# Altium integrated library Panasonic_ERJ_1206.IntLib: 1141 symbols (part 4 of 22)
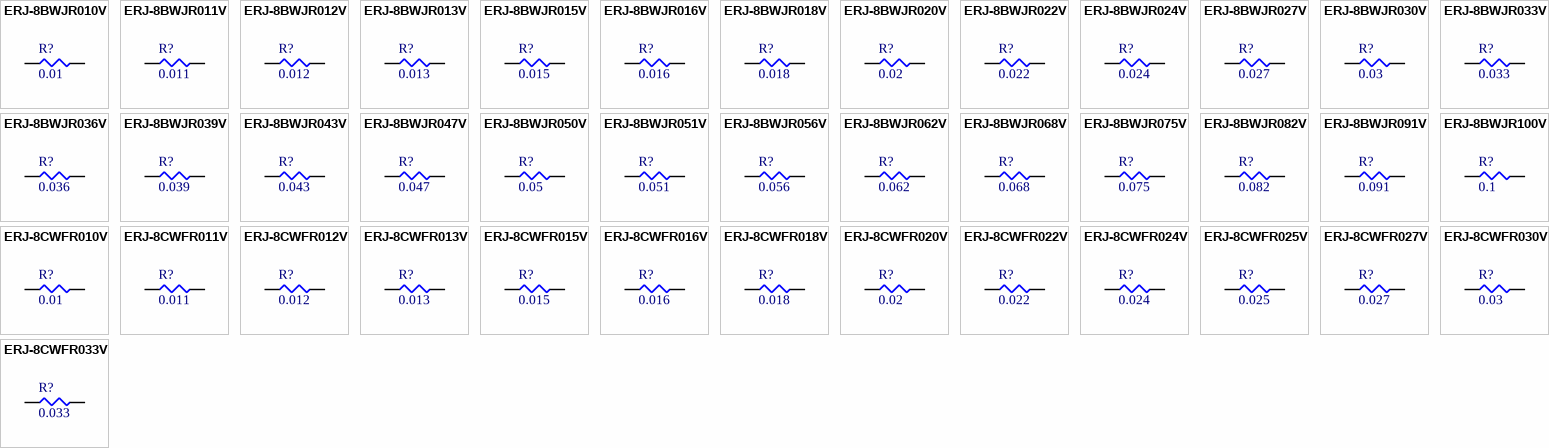
[diagram p31: symbols ERJ-8BWJR010V to ERJ-8CWFR033V]

## ERJ-8CWFR025V
designator R?, comment 0.025
RES SMD 0.025 OHM 1% 1W 1206; Part Number: ERJ-8CWFR025V; Manufacturer: Panasonic Electronic Components; Factory Stock: 0; Unit Price (USD): 0.12302; @ qty: 1500; Minimum Quantity: 1; Temperature Coefficient: ±75ppm/°C; Datasheets: https://industrial.panasonic.com/cdbs/www-data/pdf/RDA0000/AOA0000C239.pdf; Image: //media.digikey.com/Renders/Panasonic%20Renders/ERJ-1206%20Pkg.jpg; Digi-Key Part Number: P0.025BVCT-ND; Quantity Available: 31553; Packaging: Cut Tape (CT); Series: ERJ; Part Status: Active; Value: 0.025; Tolerance: ±1%; Power (Watts): 1W; Composition: Thick Film; Features: Automotive AEC-Q200, Current Sense; Operating Temperature: -55°C ~ 155°C; Package / Case: 1206 (3216 Metric); Supplier Device Package: 1206; Size / Dimension: 0.126" L x 0.063" W (3.20mm x 1.60mm); Height - Seated (Max): 0.030" (0.75mm); Number of Terminations: 2; Failure Rate: -
footprint SMD-1206-RES
pins: 1, 2

## ERJ-8CWFR027V
designator R?, comment 0.027
RES SMD 0.027 OHM 1% 1W 1206; Part Number: ERJ-8CWFR027V; Manufacturer: Panasonic Electronic Components; Factory Stock: 0; Unit Price (USD): 0.12302; @ qty: 1500; Minimum Quantity: 1; Temperature Coefficient: ±75ppm/°C; Datasheets: https://industrial.panasonic.com/cdbs/www-data/pdf/RDA0000/AOA0000C239.pdf; Image: //media.digikey.com/Renders/Panasonic%20Renders/ERJ-1206%20Pkg.jpg; Digi-Key Part Number: P0.027BVCT-ND; Quantity Available: 7790; Packaging: Cut Tape (CT); Series: ERJ; Part Status: Active; Value: 0.027; Tolerance: ±1%; Power (Watts): 1W; Composition: Thick Film; Features: Automotive AEC-Q200, Current Sense; Operating Temperature: -55°C ~ 155°C; Package / Case: 1206 (3216 Metric); Supplier Device Package: 1206; Size / Dimension: 0.126" L x 0.063" W (3.20mm x 1.60mm); Height - Seated (Max): 0.030" (0.75mm); Number of Terminations: 2; Failure Rate: -
footprint SMD-1206-RES
pins: 1, 2

## ERJ-8CWFR030V
designator R?, comment 0.03
RES SMD 0.03 OHM 1% 1W 1206; Part Number: ERJ-8CWFR030V; Manufacturer: Panasonic Electronic Components; Factory Stock: 0; Unit Price (USD): 0.12302; @ qty: 1500; Minimum Quantity: 1; Temperature Coefficient: ±75ppm/°C; Datasheets: https://industrial.panasonic.com/cdbs/www-data/pdf/RDA0000/AOA0000C239.pdf; Image: //media.digikey.com/Renders/Panasonic%20Renders/ERJ-1206%20Pkg.jpg; Digi-Key Part Number: P0.03BVCT-ND; Quantity Available: 14446; Packaging: Cut Tape (CT); Series: ERJ; Part Status: Active; Value: 0.03; Tolerance: ±1%; Power (Watts): 1W; Composition: Thick Film; Features: Automotive AEC-Q200, Current Sense; Operating Temperature: -55°C ~ 155°C; Package / Case: 1206 (3216 Metric); Supplier Device Package: 1206; Size / Dimension: 0.126" L x 0.063" W (3.20mm x 1.60mm); Height - Seated (Max): 0.030" (0.75mm); Number of Terminations: 2; Failure Rate: -
footprint SMD-1206-RES
pins: 1, 2

## ERJ-8CWFR033V
designator R?, comment 0.033
RES SMD 0.033 OHM 1% 1W 1206; Part Number: ERJ-8CWFR033V; Manufacturer: Panasonic Electronic Components; Factory Stock: 0; Unit Price (USD): 0.12302; @ qty: 1500; Minimum Quantity: 1; Temperature Coefficient: ±75ppm/°C; Datasheets: https://industrial.panasonic.com/cdbs/www-data/pdf/RDA0000/AOA0000C239.pdf; Image: //media.digikey.com/Renders/Panasonic%20Renders/ERJ-1206%20Pkg.jpg; Digi-Key Part Number: P0.033BVCT-ND; Quantity Available: 9167; Packaging: Cut Tape (CT); Series: ERJ; Part Status: Active; Value: 0.033; Tolerance: ±1%; Power (Watts): 1W; Composition: Thick Film; Features: Automotive AEC-Q200, Current Sense; Operating Temperature: -55°C ~ 155°C; Package / Case: 1206 (3216 Metric); Supplier Device Package: 1206; Size / Dimension: 0.126" L x 0.063" W (3.20mm x 1.60mm); Height - Seated (Max): 0.030" (0.75mm); Number of Terminations: 2; Failure Rate: -
footprint SMD-1206-RES
pins: 1, 2

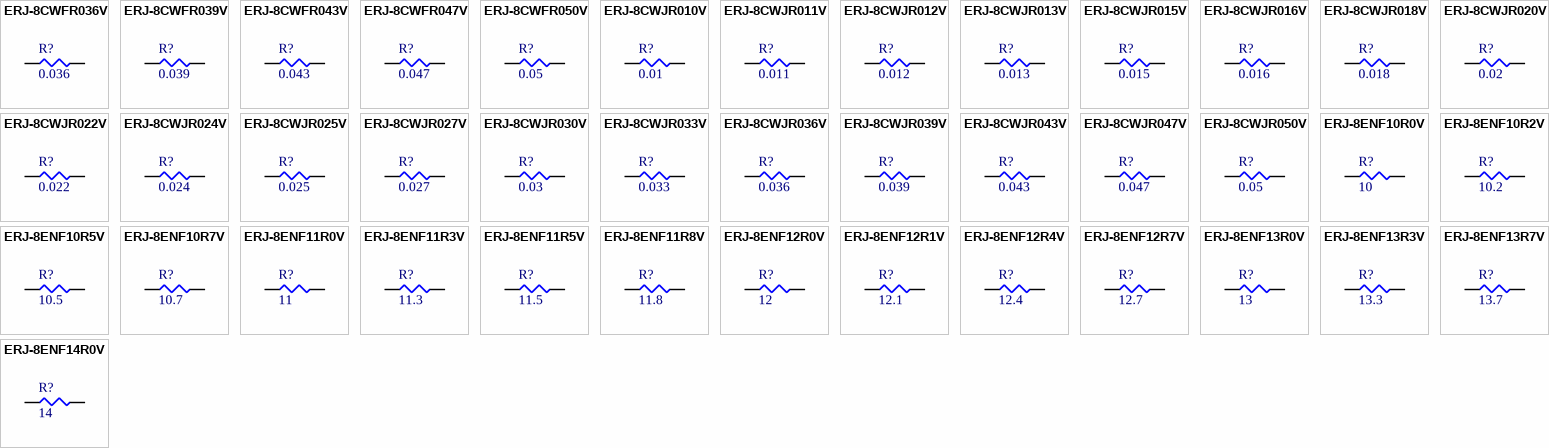
[diagram p4: symbols ERJ-8CWFR036V to ERJ-8ENF14R0V]

## ERJ-8CWFR036V
designator R?, comment 0.036
RES SMD 0.036 OHM 1% 1W 1206; Part Number: ERJ-8CWFR036V; Manufacturer: Panasonic Electronic Components; Factory Stock: 0; Unit Price (USD): 0.12302; @ qty: 1500; Minimum Quantity: 1; Temperature Coefficient: ±75ppm/°C; Datasheets: https://industrial.panasonic.com/cdbs/www-data/pdf/RDA0000/AOA0000C239.pdf; Image: //media.digikey.com/Renders/Panasonic%20Renders/ERJ-1206%20Pkg.jpg; Digi-Key Part Number: P0.036BVCT-ND; Quantity Available: 18695; Packaging: Cut Tape (CT); Series: ERJ; Part Status: Active; Value: 0.036; Tolerance: ±1%; Power (Watts): 1W; Composition: Thick Film; Features: Automotive AEC-Q200, Current Sense; Operating Temperature: -55°C ~ 125°C; Package / Case: 1206 (3216 Metric); Supplier Device Package: 1206; Size / Dimension: 0.126" L x 0.063" W (3.20mm x 1.60mm); Height - Seated (Max): 0.030" (0.75mm); Number of Terminations: 2; Failure Rate: -
footprint SMD-1206-RES
pins: 1, 2

## ERJ-8CWFR039V
designator R?, comment 0.039
RES SMD 0.039 OHM 1% 1W 1206; Part Number: ERJ-8CWFR039V; Manufacturer: Panasonic Electronic Components; Factory Stock: 0; Unit Price (USD): 0.12302; @ qty: 1500; Minimum Quantity: 1; Temperature Coefficient: ±75ppm/°C; Datasheets: https://industrial.panasonic.com/cdbs/www-data/pdf/RDA0000/AOA0000C239.pdf; Image: //media.digikey.com/Renders/Panasonic%20Renders/ERJ-1206%20Pkg.jpg; Digi-Key Part Number: P0.039BVCT-ND; Quantity Available: 10337; Packaging: Cut Tape (CT); Series: ERJ; Part Status: Active; Value: 0.039; Tolerance: ±1%; Power (Watts): 1W; Composition: Thick Film; Features: Automotive AEC-Q200, Current Sense; Operating Temperature: -55°C ~ 125°C; Package / Case: 1206 (3216 Metric); Supplier Device Package: 1206; Size / Dimension: 0.126" L x 0.063" W (3.20mm x 1.60mm); Height - Seated (Max): 0.030" (0.75mm); Number of Terminations: 2; Failure Rate: -
footprint SMD-1206-RES
pins: 1, 2

## ERJ-8CWFR043V
designator R?, comment 0.043
RES SMD 0.043 OHM 1% 1W 1206; Part Number: ERJ-8CWFR043V; Manufacturer: Panasonic Electronic Components; Factory Stock: 0; Unit Price (USD): 0.12302; @ qty: 1500; Minimum Quantity: 1; Temperature Coefficient: ±75ppm/°C; Datasheets: https://industrial.panasonic.com/cdbs/www-data/pdf/RDA0000/AOA0000C239.pdf; Image: //media.digikey.com/Renders/Panasonic%20Renders/ERJ-1206%20Pkg.jpg; Digi-Key Part Number: P0.043BVCT-ND; Quantity Available: 1988; Packaging: Cut Tape (CT); Series: ERJ; Part Status: Active; Value: 0.043; Tolerance: ±1%; Power (Watts): 1W; Composition: Thick Film; Features: Automotive AEC-Q200, Current Sense; Operating Temperature: -55°C ~ 125°C; Package / Case: 1206 (3216 Metric); Supplier Device Package: 1206; Size / Dimension: 0.126" L x 0.063" W (3.20mm x 1.60mm); Height - Seated (Max): 0.030" (0.75mm); Number of Terminations: 2; Failure Rate: -
footprint SMD-1206-RES
pins: 1, 2

## ERJ-8CWFR047V
designator R?, comment 0.047
RES SMD 0.047 OHM 1% 1W 1206; Part Number: ERJ-8CWFR047V; Manufacturer: Panasonic Electronic Components; Factory Stock: 0; Unit Price (USD): 0.12302; @ qty: 1500; Minimum Quantity: 1; Temperature Coefficient: ±75ppm/°C; Datasheets: https://industrial.panasonic.com/cdbs/www-data/pdf/RDA0000/AOA0000C239.pdf; Image: //media.digikey.com/Renders/Panasonic%20Renders/ERJ-1206%20Pkg.jpg; Digi-Key Part Number: P0.047BVCT-ND; Quantity Available: 5071; Packaging: Cut Tape (CT); Series: ERJ; Part Status: Active; Value: 0.047; Tolerance: ±1%; Power (Watts): 1W; Composition: Thick Film; Features: Automotive AEC-Q200, Current Sense; Operating Temperature: -55°C ~ 125°C; Package / Case: 1206 (3216 Metric); Supplier Device Package: 1206; Size / Dimension: 0.126" L x 0.063" W (3.20mm x 1.60mm); Height - Seated (Max): 0.030" (0.75mm); Number of Terminations: 2; Failure Rate: -
footprint SMD-1206-RES
pins: 1, 2

## ERJ-8CWFR050V
designator R?, comment 0.05
RES SMD 0.05 OHM 1% 1W 1206; Part Number: ERJ-8CWFR050V; Manufacturer: Panasonic Electronic Components; Factory Stock: 0; Unit Price (USD): 0.12302; @ qty: 1500; Minimum Quantity: 1; Temperature Coefficient: ±75ppm/°C; Datasheets: https://industrial.panasonic.com/cdbs/www-data/pdf/RDA0000/AOA0000C239.pdf; Image: //media.digikey.com/Renders/Panasonic%20Renders/ERJ-1206%20Pkg.jpg; Digi-Key Part Number: P0.05BVCT-ND; Quantity Available: 72567; Packaging: Cut Tape (CT); Series: ERJ; Part Status: Active; Value: 0.05; Tolerance: ±1%; Power (Watts): 1W; Composition: Thick Film; Features: Automotive AEC-Q200, Current Sense; Operating Temperature: -55°C ~ 125°C; Package / Case: 1206 (3216 Metric); Supplier Device Package: 1206; Size / Dimension: 0.126" L x 0.063" W (3.20mm x 1.60mm); Height - Seated (Max): 0.030" (0.75mm); Number of Terminations: 2; Failure Rate: -
footprint SMD-1206-RES
pins: 1, 2

## ERJ-8CWJR010V
designator R?, comment 0.01
RES SMD 0.01 OHM 5% 1W 1206; Part Number: ERJ-8CWJR010V; Manufacturer: Panasonic Electronic Components; Factory Stock: 0; Unit Price (USD): 0.10472; @ qty: 1500; Minimum Quantity: 1; Temperature Coefficient: ±75ppm/°C; Datasheets: https://industrial.panasonic.com/cdbs/www-data/pdf/RDA0000/AOA0000C239.pdf; Image: //media.digikey.com/Renders/Panasonic%20Renders/ERJ-1206%20Pkg.jpg; Digi-Key Part Number: P0.01BWCT-ND; Quantity Available: 13964; Packaging: Cut Tape (CT); Series: ERJ; Part Status: Active; Value: 0.01; Tolerance: ±5%; Power (Watts): 1W; Composition: Thick Film; Features: Automotive AEC-Q200, Current Sense; Operating Temperature: -55°C ~ 155°C; Package / Case: 1206 (3216 Metric); Supplier Device Package: 1206; Size / Dimension: 0.126" L x 0.063" W (3.20mm x 1.60mm); Height - Seated (Max): 0.030" (0.75mm); Number of Terminations: 2; Failure Rate: -
footprint SMD-1206-RES
pins: 1, 2

## ERJ-8CWJR011V
designator R?, comment 0.011
RES SMD 0.011 OHM 5% 1W 1206; Part Number: ERJ-8CWJR011V; Manufacturer: Panasonic Electronic Components; Factory Stock: 0; Unit Price (USD): 0.10472; @ qty: 1500; Minimum Quantity: 1; Temperature Coefficient: ±75ppm/°C; Datasheets: https://industrial.panasonic.com/cdbs/www-data/pdf/RDA0000/AOA0000C239.pdf; Image: //media.digikey.com/Renders/Panasonic%20Renders/ERJ-1206%20Pkg.jpg; Digi-Key Part Number: P0.011BWCT-ND; Quantity Available: 12783; Packaging: Cut Tape (CT); Series: ERJ; Part Status: Active; Value: 0.011; Tolerance: ±5%; Power (Watts): 1W; Composition: Thick Film; Features: Automotive AEC-Q200, Current Sense; Operating Temperature: -55°C ~ 155°C; Package / Case: 1206 (3216 Metric); Supplier Device Package: 1206; Size / Dimension: 0.126" L x 0.063" W (3.20mm x 1.60mm); Height - Seated (Max): 0.030" (0.75mm); Number of Terminations: 2; Failure Rate: -
footprint SMD-1206-RES
pins: 1, 2

## ERJ-8CWJR012V
designator R?, comment 0.012
RES SMD 0.012 OHM 5% 1W 1206; Part Number: ERJ-8CWJR012V; Manufacturer: Panasonic Electronic Components; Factory Stock: 0; Unit Price (USD): 0.10472; @ qty: 1500; Minimum Quantity: 1; Temperature Coefficient: ±75ppm/°C; Datasheets: https://industrial.panasonic.com/cdbs/www-data/pdf/RDA0000/AOA0000C239.pdf; Image: //media.digikey.com/Renders/Panasonic%20Renders/ERJ-1206%20Pkg.jpg; Digi-Key Part Number: P0.012BWCT-ND; Quantity Available: 8468; Packaging: Cut Tape (CT); Series: ERJ; Part Status: Active; Value: 0.012; Tolerance: ±5%; Power (Watts): 1W; Composition: Thick Film; Features: Automotive AEC-Q200, Current Sense; Operating Temperature: -55°C ~ 155°C; Package / Case: 1206 (3216 Metric); Supplier Device Package: 1206; Size / Dimension: 0.126" L x 0.063" W (3.20mm x 1.60mm); Height - Seated (Max): 0.030" (0.75mm); Number of Terminations: 2; Failure Rate: -
footprint SMD-1206-RES
pins: 1, 2

## ERJ-8CWJR013V
designator R?, comment 0.013
RES SMD 0.013 OHM 5% 1W 1206; Part Number: ERJ-8CWJR013V; Manufacturer: Panasonic Electronic Components; Factory Stock: 0; Unit Price (USD): 0.10472; @ qty: 1500; Minimum Quantity: 1; Temperature Coefficient: ±75ppm/°C; Datasheets: https://industrial.panasonic.com/cdbs/www-data/pdf/RDA0000/AOA0000C239.pdf; Image: //media.digikey.com/Renders/Panasonic%20Renders/ERJ-1206%20Pkg.jpg; Digi-Key Part Number: P0.013BWCT-ND; Quantity Available: 9816; Packaging: Cut Tape (CT); Series: ERJ; Part Status: Active; Value: 0.013; Tolerance: ±5%; Power (Watts): 1W; Composition: Thick Film; Features: Automotive AEC-Q200, Current Sense; Operating Temperature: -55°C ~ 155°C; Package / Case: 1206 (3216 Metric); Supplier Device Package: 1206; Size / Dimension: 0.126" L x 0.063" W (3.20mm x 1.60mm); Height - Seated (Max): 0.030" (0.75mm); Number of Terminations: 2; Failure Rate: -
footprint SMD-1206-RES
pins: 1, 2

## ERJ-8CWJR015V
designator R?, comment 0.015
RES SMD 0.015 OHM 5% 1W 1206; Part Number: ERJ-8CWJR015V; Manufacturer: Panasonic Electronic Components; Factory Stock: 0; Unit Price (USD): 0.10472; @ qty: 1500; Minimum Quantity: 1; Temperature Coefficient: ±75ppm/°C; Datasheets: https://industrial.panasonic.com/cdbs/www-data/pdf/RDA0000/AOA0000C239.pdf; Image: //media.digikey.com/Renders/Panasonic%20Renders/ERJ-1206%20Pkg.jpg; Digi-Key Part Number: P0.015BWCT-ND; Quantity Available: 2869; Packaging: Cut Tape (CT); Series: ERJ; Part Status: Active; Value: 0.015; Tolerance: ±5%; Power (Watts): 1W; Composition: Thick Film; Features: Automotive AEC-Q200, Current Sense; Operating Temperature: -55°C ~ 155°C; Package / Case: 1206 (3216 Metric); Supplier Device Package: 1206; Size / Dimension: 0.126" L x 0.063" W (3.20mm x 1.60mm); Height - Seated (Max): 0.030" (0.75mm); Number of Terminations: 2; Failure Rate: -
footprint SMD-1206-RES
pins: 1, 2

## ERJ-8CWJR016V
designator R?, comment 0.016
RES SMD 0.016 OHM 5% 1W 1206; Part Number: ERJ-8CWJR016V; Manufacturer: Panasonic Electronic Components; Factory Stock: 0; Unit Price (USD): 0.10472; @ qty: 1500; Minimum Quantity: 1; Temperature Coefficient: ±75ppm/°C; Datasheets: https://industrial.panasonic.com/cdbs/www-data/pdf/RDA0000/AOA0000C239.pdf; Image: //media.digikey.com/Renders/Panasonic%20Renders/ERJ-1206%20Pkg.jpg; Digi-Key Part Number: P0.016BWCT-ND; Quantity Available: 9780; Packaging: Cut Tape (CT); Series: ERJ; Part Status: Active; Value: 0.016; Tolerance: ±5%; Power (Watts): 1W; Composition: Thick Film; Features: Automotive AEC-Q200, Current Sense; Operating Temperature: -55°C ~ 155°C; Package / Case: 1206 (3216 Metric); Supplier Device Package: 1206; Size / Dimension: 0.126" L x 0.063" W (3.20mm x 1.60mm); Height - Seated (Max): 0.030" (0.75mm); Number of Terminations: 2; Failure Rate: -
footprint SMD-1206-RES
pins: 1, 2

## ERJ-8CWJR018V
designator R?, comment 0.018
RES SMD 0.018 OHM 5% 1W 1206; Part Number: ERJ-8CWJR018V; Manufacturer: Panasonic Electronic Components; Factory Stock: 0; Unit Price (USD): 0.10472; @ qty: 1500; Minimum Quantity: 1; Temperature Coefficient: ±75ppm/°C; Datasheets: https://industrial.panasonic.com/cdbs/www-data/pdf/RDA0000/AOA0000C239.pdf; Image: //media.digikey.com/Renders/Panasonic%20Renders/ERJ-1206%20Pkg.jpg; Digi-Key Part Number: P0.018BWCT-ND; Quantity Available: 9276; Packaging: Cut Tape (CT); Series: ERJ; Part Status: Active; Value: 0.018; Tolerance: ±5%; Power (Watts): 1W; Composition: Thick Film; Features: Automotive AEC-Q200, Current Sense; Operating Temperature: -55°C ~ 155°C; Package / Case: 1206 (3216 Metric); Supplier Device Package: 1206; Size / Dimension: 0.126" L x 0.063" W (3.20mm x 1.60mm); Height - Seated (Max): 0.030" (0.75mm); Number of Terminations: 2; Failure Rate: -
footprint SMD-1206-RES
pins: 1, 2

## ERJ-8CWJR020V
designator R?, comment 0.02
RES SMD 0.02 OHM 5% 1W 1206; Part Number: ERJ-8CWJR020V; Manufacturer: Panasonic Electronic Components; Factory Stock: 0; Unit Price (USD): 0.10472; @ qty: 1500; Minimum Quantity: 1; Temperature Coefficient: ±75ppm/°C; Datasheets: https://industrial.panasonic.com/cdbs/www-data/pdf/RDA0000/AOA0000C239.pdf; Image: //media.digikey.com/Renders/Panasonic%20Renders/ERJ-1206%20Pkg.jpg; Digi-Key Part Number: P0.02BWCT-ND; Quantity Available: 5930; Packaging: Cut Tape (CT); Series: ERJ; Part Status: Active; Value: 0.02; Tolerance: ±5%; Power (Watts): 1W; Composition: Thick Film; Features: Automotive AEC-Q200, Current Sense; Operating Temperature: -55°C ~ 155°C; Package / Case: 1206 (3216 Metric); Supplier Device Package: 1206; Size / Dimension: 0.126" L x 0.063" W (3.20mm x 1.60mm); Height - Seated (Max): 0.030" (0.75mm); Number of Terminations: 2; Failure Rate: -
footprint SMD-1206-RES
pins: 1, 2

## ERJ-8CWJR022V
designator R?, comment 0.022
RES SMD 0.022 OHM 5% 1W 1206; Part Number: ERJ-8CWJR022V; Manufacturer: Panasonic Electronic Components; Factory Stock: 0; Unit Price (USD): 0.10472; @ qty: 1500; Minimum Quantity: 1; Temperature Coefficient: ±75ppm/°C; Datasheets: https://industrial.panasonic.com/cdbs/www-data/pdf/RDA0000/AOA0000C239.pdf; Image: //media.digikey.com/Renders/Panasonic%20Renders/ERJ-1206%20Pkg.jpg; Digi-Key Part Number: P0.022BWCT-ND; Quantity Available: 4545; Packaging: Cut Tape (CT); Series: ERJ; Part Status: Active; Value: 0.022; Tolerance: ±5%; Power (Watts): 1W; Composition: Thick Film; Features: Automotive AEC-Q200, Current Sense; Operating Temperature: -55°C ~ 155°C; Package / Case: 1206 (3216 Metric); Supplier Device Package: 1206; Size / Dimension: 0.126" L x 0.063" W (3.20mm x 1.60mm); Height - Seated (Max): 0.030" (0.75mm); Number of Terminations: 2; Failure Rate: -
footprint SMD-1206-RES
pins: 1, 2

## ERJ-8CWJR024V
designator R?, comment 0.024
RES SMD 0.024 OHM 5% 1W 1206; Part Number: ERJ-8CWJR024V; Manufacturer: Panasonic Electronic Components; Factory Stock: 0; Unit Price (USD): 0.10472; @ qty: 1500; Minimum Quantity: 1; Temperature Coefficient: ±75ppm/°C; Datasheets: https://industrial.panasonic.com/cdbs/www-data/pdf/RDA0000/AOA0000C239.pdf; Image: //media.digikey.com/Renders/Panasonic%20Renders/ERJ-1206%20Pkg.jpg; Digi-Key Part Number: P0.024BWCT-ND; Quantity Available: 10000; Packaging: Cut Tape (CT); Series: ERJ; Part Status: Active; Value: 0.024; Tolerance: ±5%; Power (Watts): 1W; Composition: Thick Film; Features: Automotive AEC-Q200, Current Sense; Operating Temperature: -55°C ~ 155°C; Package / Case: 1206 (3216 Metric); Supplier Device Package: 1206; Size / Dimension: 0.126" L x 0.063" W (3.20mm x 1.60mm); Height - Seated (Max): 0.030" (0.75mm); Number of Terminations: 2; Failure Rate: -
footprint SMD-1206-RES
pins: 1, 2

## ERJ-8CWJR025V
designator R?, comment 0.025
RES SMD 0.025 OHM 5% 1W 1206; Part Number: ERJ-8CWJR025V; Manufacturer: Panasonic Electronic Components; Factory Stock: 0; Unit Price (USD): 0.10472; @ qty: 1500; Minimum Quantity: 1; Temperature Coefficient: ±75ppm/°C; Datasheets: https://industrial.panasonic.com/cdbs/www-data/pdf/RDA0000/AOA0000C239.pdf; Image: //media.digikey.com/Renders/Panasonic%20Renders/ERJ-1206%20Pkg.jpg; Digi-Key Part Number: P0.025BWCT-ND; Quantity Available: 3778; Packaging: Cut Tape (CT); Series: ERJ; Part Status: Active; Value: 0.025; Tolerance: ±5%; Power (Watts): 1W; Composition: Thick Film; Features: Automotive AEC-Q200, Current Sense; Operating Temperature: -55°C ~ 155°C; Package / Case: 1206 (3216 Metric); Supplier Device Package: 1206; Size / Dimension: 0.126" L x 0.063" W (3.20mm x 1.60mm); Height - Seated (Max): 0.030" (0.75mm); Number of Terminations: 2; Failure Rate: -
footprint SMD-1206-RES
pins: 1, 2

## ERJ-8CWJR027V
designator R?, comment 0.027
RES SMD 0.027 OHM 5% 1W 1206; Part Number: ERJ-8CWJR027V; Manufacturer: Panasonic Electronic Components; Factory Stock: 0; Unit Price (USD): 0.10472; @ qty: 1500; Minimum Quantity: 1; Temperature Coefficient: ±75ppm/°C; Datasheets: https://industrial.panasonic.com/cdbs/www-data/pdf/RDA0000/AOA0000C239.pdf; Image: //media.digikey.com/Renders/Panasonic%20Renders/ERJ-1206%20Pkg.jpg; Digi-Key Part Number: P0.027BWCT-ND; Quantity Available: 9948; Packaging: Cut Tape (CT); Series: ERJ; Part Status: Active; Value: 0.027; Tolerance: ±5%; Power (Watts): 1W; Composition: Thick Film; Features: Automotive AEC-Q200, Current Sense; Operating Temperature: -55°C ~ 155°C; Package / Case: 1206 (3216 Metric); Supplier Device Package: 1206; Size / Dimension: 0.126" L x 0.063" W (3.20mm x 1.60mm); Height - Seated (Max): 0.030" (0.75mm); Number of Terminations: 2; Failure Rate: -
footprint SMD-1206-RES
pins: 1, 2

## ERJ-8CWJR030V
designator R?, comment 0.03
RES SMD 0.03 OHM 5% 1W 1206; Part Number: ERJ-8CWJR030V; Manufacturer: Panasonic Electronic Components; Factory Stock: 0; Unit Price (USD): 0.10472; @ qty: 1500; Minimum Quantity: 1; Temperature Coefficient: ±75ppm/°C; Datasheets: https://industrial.panasonic.com/cdbs/www-data/pdf/RDA0000/AOA0000C239.pdf; Image: //media.digikey.com/Renders/Panasonic%20Renders/ERJ-1206%20Pkg.jpg; Digi-Key Part Number: P0.03BWCT-ND; Quantity Available: 9862; Packaging: Cut Tape (CT); Series: ERJ; Part Status: Active; Value: 0.03; Tolerance: ±5%; Power (Watts): 1W; Composition: Thick Film; Features: Automotive AEC-Q200, Current Sense; Operating Temperature: -55°C ~ 155°C; Package / Case: 1206 (3216 Metric); Supplier Device Package: 1206; Size / Dimension: 0.126" L x 0.063" W (3.20mm x 1.60mm); Height - Seated (Max): 0.030" (0.75mm); Number of Terminations: 2; Failure Rate: -
footprint SMD-1206-RES
pins: 1, 2

## ERJ-8CWJR033V
designator R?, comment 0.033
RES SMD 0.033 OHM 5% 1W 1206; Part Number: ERJ-8CWJR033V; Manufacturer: Panasonic Electronic Components; Factory Stock: 0; Unit Price (USD): 0.10472; @ qty: 1500; Minimum Quantity: 1; Temperature Coefficient: ±75ppm/°C; Datasheets: https://industrial.panasonic.com/cdbs/www-data/pdf/RDA0000/AOA0000C239.pdf; Image: //media.digikey.com/Renders/Panasonic%20Renders/ERJ-1206%20Pkg.jpg; Digi-Key Part Number: P0.033BWCT-ND; Quantity Available: 8044; Packaging: Cut Tape (CT); Series: ERJ; Part Status: Active; Value: 0.033; Tolerance: ±5%; Power (Watts): 1W; Composition: Thick Film; Features: Automotive AEC-Q200, Current Sense; Operating Temperature: -55°C ~ 155°C; Package / Case: 1206 (3216 Metric); Supplier Device Package: 1206; Size / Dimension: 0.126" L x 0.063" W (3.20mm x 1.60mm); Height - Seated (Max): 0.030" (0.75mm); Number of Terminations: 2; Failure Rate: -
footprint SMD-1206-RES
pins: 1, 2

## ERJ-8CWJR036V
designator R?, comment 0.036
RES SMD 0.036 OHM 5% 1W 1206; Part Number: ERJ-8CWJR036V; Manufacturer: Panasonic Electronic Components; Factory Stock: 0; Unit Price (USD): 0.10472; @ qty: 1500; Minimum Quantity: 1; Temperature Coefficient: ±75ppm/°C; Datasheets: https://industrial.panasonic.com/cdbs/www-data/pdf/RDA0000/AOA0000C239.pdf; Image: //media.digikey.com/Renders/Panasonic%20Renders/ERJ-1206%20Pkg.jpg; Digi-Key Part Number: P0.036BWCT-ND; Quantity Available: 9973; Packaging: Cut Tape (CT); Series: ERJ; Part Status: Active; Value: 0.036; Tolerance: ±5%; Power (Watts): 1W; Composition: Thick Film; Features: Automotive AEC-Q200, Current Sense; Operating Temperature: -55°C ~ 125°C; Package / Case: 1206 (3216 Metric); Supplier Device Package: 1206; Size / Dimension: 0.126" L x 0.063" W (3.20mm x 1.60mm); Height - Seated (Max): 0.030" (0.75mm); Number of Terminations: 2; Failure Rate: -
footprint SMD-1206-RES
pins: 1, 2

## ERJ-8CWJR039V
designator R?, comment 0.039
RES SMD 0.039 OHM 5% 1W 1206; Part Number: ERJ-8CWJR039V; Manufacturer: Panasonic Electronic Components; Factory Stock: 0; Unit Price (USD): 0.10472; @ qty: 1500; Minimum Quantity: 1; Temperature Coefficient: ±75ppm/°C; Datasheets: https://industrial.panasonic.com/cdbs/www-data/pdf/RDA0000/AOA0000C239.pdf; Image: //media.digikey.com/Renders/Panasonic%20Renders/ERJ-1206%20Pkg.jpg; Digi-Key Part Number: P0.039BWCT-ND; Quantity Available: 9490; Packaging: Cut Tape (CT); Series: ERJ; Part Status: Active; Value: 0.039; Tolerance: ±5%; Power (Watts): 1W; Composition: Thick Film; Features: Automotive AEC-Q200, Current Sense; Operating Temperature: -55°C ~ 125°C; Package / Case: 1206 (3216 Metric); Supplier Device Package: 1206; Size / Dimension: 0.126" L x 0.063" W (3.20mm x 1.60mm); Height - Seated (Max): 0.030" (0.75mm); Number of Terminations: 2; Failure Rate: -
footprint SMD-1206-RES
pins: 1, 2

## ERJ-8CWJR043V
designator R?, comment 0.043
RES SMD 0.043 OHM 5% 1W 1206; Part Number: ERJ-8CWJR043V; Manufacturer: Panasonic Electronic Components; Factory Stock: 0; Unit Price (USD): 0.10472; @ qty: 1500; Minimum Quantity: 1; Temperature Coefficient: ±75ppm/°C; Datasheets: https://industrial.panasonic.com/cdbs/www-data/pdf/RDA0000/AOA0000C239.pdf; Image: //media.digikey.com/Renders/Panasonic%20Renders/ERJ-1206%20Pkg.jpg; Digi-Key Part Number: P0.043BWCT-ND; Quantity Available: 9934; Packaging: Cut Tape (CT); Series: ERJ; Part Status: Active; Value: 0.043; Tolerance: ±5%; Power (Watts): 1W; Composition: Thick Film; Features: Automotive AEC-Q200, Current Sense; Operating Temperature: -55°C ~ 125°C; Package / Case: 1206 (3216 Metric); Supplier Device Package: 1206; Size / Dimension: 0.126" L x 0.063" W (3.20mm x 1.60mm); Height - Seated (Max): 0.030" (0.75mm); Number of Terminations: 2; Failure Rate: -
footprint SMD-1206-RES
pins: 1, 2

## ERJ-8CWJR047V
designator R?, comment 0.047
RES SMD 0.047 OHM 5% 1W 1206; Part Number: ERJ-8CWJR047V; Manufacturer: Panasonic Electronic Components; Factory Stock: 0; Unit Price (USD): 0.10472; @ qty: 1500; Minimum Quantity: 1; Temperature Coefficient: ±75ppm/°C; Datasheets: https://industrial.panasonic.com/cdbs/www-data/pdf/RDA0000/AOA0000C239.pdf; Image: //media.digikey.com/Renders/Panasonic%20Renders/ERJ-1206%20Pkg.jpg; Digi-Key Part Number: P0.047BWCT-ND; Quantity Available: 9592; Packaging: Cut Tape (CT); Series: ERJ; Part Status: Active; Value: 0.047; Tolerance: ±5%; Power (Watts): 1W; Composition: Thick Film; Features: Automotive AEC-Q200, Current Sense; Operating Temperature: -55°C ~ 125°C; Package / Case: 1206 (3216 Metric); Supplier Device Package: 1206; Size / Dimension: 0.126" L x 0.063" W (3.20mm x 1.60mm); Height - Seated (Max): 0.030" (0.75mm); Number of Terminations: 2; Failure Rate: -
footprint SMD-1206-RES
pins: 1, 2

## ERJ-8CWJR050V
designator R?, comment 0.05
RES SMD 0.05 OHM 5% 1W 1206; Part Number: ERJ-8CWJR050V; Manufacturer: Panasonic Electronic Components; Factory Stock: 0; Unit Price (USD): 0.10472; @ qty: 1500; Minimum Quantity: 1; Temperature Coefficient: ±75ppm/°C; Datasheets: https://industrial.panasonic.com/cdbs/www-data/pdf/RDA0000/AOA0000C239.pdf; Image: //media.digikey.com/Renders/Panasonic%20Renders/ERJ-1206%20Pkg.jpg; Digi-Key Part Number: P0.05BWCT-ND; Quantity Available: 5770; Packaging: Cut Tape (CT); Series: ERJ; Part Status: Active; Value: 0.05; Tolerance: ±5%; Power (Watts): 1W; Composition: Thick Film; Features: Automotive AEC-Q200, Current Sense; Operating Temperature: -55°C ~ 125°C; Package / Case: 1206 (3216 Metric); Supplier Device Package: 1206; Size / Dimension: 0.126" L x 0.063" W (3.20mm x 1.60mm); Height - Seated (Max): 0.030" (0.75mm); Number of Terminations: 2; Failure Rate: -
footprint SMD-1206-RES
pins: 1, 2

## ERJ-8ENF10R0V
designator R?, comment 10
RES SMD 10 OHM 1% 1/4W 1206; Part Number: ERJ-8ENF10R0V; Manufacturer: Panasonic Electronic Components; Factory Stock: 0; Unit Price (USD): 0.00933; @ qty: 1500; Minimum Quantity: 1; Power (Watts): 0.25W, 1/4W; Temperature Coefficient: ±100ppm/°C; Datasheets: http://industrial.panasonic.com/www-cgi/jvcr13pz.cgi?E+PZ+3+AOA0002+ERJ8ENF10R0V+7+WW; Image: //media.digikey.com/Renders/Panasonic%20Renders/ERJ-1206%20Pkg.jpg; Digi-Key Part Number: P10.0FCT-ND; Quantity Available: 346427; Packaging: Cut Tape (CT); Series: ERJ; Part Status: Active; Value: 10; Tolerance: ±1%; Composition: Thick Film; Features: Automotive AEC-Q200; Operating Temperature: -55°C ~ 155°C; Package / Case: 1206 (3216 Metric); Supplier Device Package: 1206; Size / Dimension: 0.126" L x 0.063" W (3.20mm x 1.60mm); Height - Seated (Max): 0.028" (0.70mm); Number of Terminations: 2; Failure Rate: -
footprint SMD-1206-RES
pins: 1, 2

## ERJ-8ENF10R2V
designator R?, comment 10.2
RES SMD 10.2 OHM 1% 1/4W 1206; Part Number: ERJ-8ENF10R2V; Manufacturer: Panasonic Electronic Components; Factory Stock: 0; Unit Price (USD): 0.00933; @ qty: 1500; Minimum Quantity: 1; Power (Watts): 0.25W, 1/4W; Temperature Coefficient: ±100ppm/°C; Datasheets: http://industrial.panasonic.com/www-cgi/jvcr13pz.cgi?E+PZ+3+AOA0002+ERJ8ENF10R2V+7+WW; Image: //media.digikey.com/Renders/Panasonic%20Renders/ERJ-1206%20Pkg.jpg; Digi-Key Part Number: P10.2FCT-ND; Quantity Available: 19753; Packaging: Cut Tape (CT); Series: ERJ; Part Status: Active; Value: 10.2; Tolerance: ±1%; Composition: Thick Film; Features: Automotive AEC-Q200; Operating Temperature: -55°C ~ 155°C; Package / Case: 1206 (3216 Metric); Supplier Device Package: 1206; Size / Dimension: 0.126" L x 0.063" W (3.20mm x 1.60mm); Height - Seated (Max): 0.028" (0.70mm); Number of Terminations: 2; Failure Rate: -
footprint SMD-1206-RES
pins: 1, 2

## ERJ-8ENF10R5V
designator R?, comment 10.5
RES SMD 10.5 OHM 1% 1/4W 1206; Part Number: ERJ-8ENF10R5V; Manufacturer: Panasonic Electronic Components; Factory Stock: 0; Unit Price (USD): 0.00933; @ qty: 1500; Minimum Quantity: 1; Power (Watts): 0.25W, 1/4W; Temperature Coefficient: ±100ppm/°C; Datasheets: http://industrial.panasonic.com/www-cgi/jvcr13pz.cgi?E+PZ+3+AOA0002+ERJ8ENF10R5V+7+WW; Image: //media.digikey.com/Renders/Panasonic%20Renders/ERJ-1206%20Pkg.jpg; Digi-Key Part Number: P10.5FCT-ND; Quantity Available: 7493; Packaging: Cut Tape (CT); Series: ERJ; Part Status: Active; Value: 10.5; Tolerance: ±1%; Composition: Thick Film; Features: Automotive AEC-Q200; Operating Temperature: -55°C ~ 155°C; Package / Case: 1206 (3216 Metric); Supplier Device Package: 1206; Size / Dimension: 0.126" L x 0.063" W (3.20mm x 1.60mm); Height - Seated (Max): 0.028" (0.70mm); Number of Terminations: 2; Failure Rate: -
footprint SMD-1206-RES
pins: 1, 2

## ERJ-8ENF10R7V
designator R?, comment 10.7
RES SMD 10.7 OHM 1% 1/4W 1206; Part Number: ERJ-8ENF10R7V; Manufacturer: Panasonic Electronic Components; Factory Stock: 0; Unit Price (USD): 0.00933; @ qty: 1500; Minimum Quantity: 1; Power (Watts): 0.25W, 1/4W; Temperature Coefficient: ±100ppm/°C; Datasheets: http://industrial.panasonic.com/www-cgi/jvcr13pz.cgi?E+PZ+3+AOA0002+ERJ8ENF10R7V+7+WW; Image: //media.digikey.com/Renders/Panasonic%20Renders/ERJ-1206%20Pkg.jpg; Digi-Key Part Number: P10.7FCT-ND; Quantity Available: 38539; Packaging: Cut Tape (CT); Series: ERJ; Part Status: Active; Value: 10.7; Tolerance: ±1%; Composition: Thick Film; Features: Automotive AEC-Q200; Operating Temperature: -55°C ~ 155°C; Package / Case: 1206 (3216 Metric); Supplier Device Package: 1206; Size / Dimension: 0.126" L x 0.063" W (3.20mm x 1.60mm); Height - Seated (Max): 0.028" (0.70mm); Number of Terminations: 2; Failure Rate: -
footprint SMD-1206-RES
pins: 1, 2

## ERJ-8ENF11R0V
designator R?, comment 11
RES SMD 11 OHM 1% 1/4W 1206; Part Number: ERJ-8ENF11R0V; Manufacturer: Panasonic Electronic Components; Factory Stock: 0; Unit Price (USD): 0.00933; @ qty: 1500; Minimum Quantity: 1; Power (Watts): 0.25W, 1/4W; Temperature Coefficient: ±100ppm/°C; Datasheets: http://industrial.panasonic.com/www-cgi/jvcr13pz.cgi?E+PZ+3+AOA0002+ERJ8ENF11R0V+7+WW; Image: //media.digikey.com/Renders/Panasonic%20Renders/ERJ-1206%20Pkg.jpg; Digi-Key Part Number: P11.0FCT-ND; Quantity Available: 77948; Packaging: Cut Tape (CT); Series: ERJ; Part Status: Active; Value: 11; Tolerance: ±1%; Composition: Thick Film; Features: Automotive AEC-Q200; Operating Temperature: -55°C ~ 155°C; Package / Case: 1206 (3216 Metric); Supplier Device Package: 1206; Size / Dimension: 0.126" L x 0.063" W (3.20mm x 1.60mm); Height - Seated (Max): 0.028" (0.70mm); Number of Terminations: 2; Failure Rate: -
footprint SMD-1206-RES
pins: 1, 2

## ERJ-8ENF11R3V
designator R?, comment 11.3
RES SMD 11.3 OHM 1% 1/4W 1206; Part Number: ERJ-8ENF11R3V; Manufacturer: Panasonic Electronic Components; Factory Stock: 0; Unit Price (USD): 0.00933; @ qty: 1500; Minimum Quantity: 1; Power (Watts): 0.25W, 1/4W; Temperature Coefficient: ±100ppm/°C; Datasheets: http://industrial.panasonic.com/www-cgi/jvcr13pz.cgi?E+PZ+3+AOA0002+ERJ8ENF11R3V+7+WW; Image: //media.digikey.com/Renders/Panasonic%20Renders/ERJ-1206%20Pkg.jpg; Digi-Key Part Number: P11.3FCT-ND; Quantity Available: 93692; Packaging: Cut Tape (CT); Series: ERJ; Part Status: Active; Value: 11.3; Tolerance: ±1%; Composition: Thick Film; Features: Automotive AEC-Q200; Operating Temperature: -55°C ~ 155°C; Package / Case: 1206 (3216 Metric); Supplier Device Package: 1206; Size / Dimension: 0.126" L x 0.063" W (3.20mm x 1.60mm); Height - Seated (Max): 0.028" (0.70mm); Number of Terminations: 2; Failure Rate: -
footprint SMD-1206-RES
pins: 1, 2

## ERJ-8ENF11R5V
designator R?, comment 11.5
RES SMD 11.5 OHM 1% 1/4W 1206; Part Number: ERJ-8ENF11R5V; Manufacturer: Panasonic Electronic Components; Factory Stock: 0; Unit Price (USD): 0.00933; @ qty: 1500; Minimum Quantity: 1; Power (Watts): 0.25W, 1/4W; Temperature Coefficient: ±100ppm/°C; Datasheets: http://industrial.panasonic.com/www-cgi/jvcr13pz.cgi?E+PZ+3+AOA0002+ERJ8ENF11R5V+7+WW; Image: //media.digikey.com/Renders/Panasonic%20Renders/ERJ-1206%20Pkg.jpg; Digi-Key Part Number: P11.5FCT-ND; Quantity Available: 68466; Packaging: Cut Tape (CT); Series: ERJ; Part Status: Active; Value: 11.5; Tolerance: ±1%; Composition: Thick Film; Features: Automotive AEC-Q200; Operating Temperature: -55°C ~ 155°C; Package / Case: 1206 (3216 Metric); Supplier Device Package: 1206; Size / Dimension: 0.126" L x 0.063" W (3.20mm x 1.60mm); Height - Seated (Max): 0.028" (0.70mm); Number of Terminations: 2; Failure Rate: -
footprint SMD-1206-RES
pins: 1, 2

## ERJ-8ENF11R8V
designator R?, comment 11.8
RES SMD 11.8 OHM 1% 1/4W 1206; Part Number: ERJ-8ENF11R8V; Manufacturer: Panasonic Electronic Components; Factory Stock: 0; Unit Price (USD): 0.00933; @ qty: 1500; Minimum Quantity: 1; Power (Watts): 0.25W, 1/4W; Temperature Coefficient: ±100ppm/°C; Datasheets: http://industrial.panasonic.com/www-cgi/jvcr13pz.cgi?E+PZ+3+AOA0002+ERJ8ENF11R8V+7+WW; Image: //media.digikey.com/Renders/Panasonic%20Renders/ERJ-1206%20Pkg.jpg; Digi-Key Part Number: P11.8FCT-ND; Quantity Available: 35025; Packaging: Cut Tape (CT); Series: ERJ; Part Status: Active; Value: 11.8; Tolerance: ±1%; Composition: Thick Film; Features: Automotive AEC-Q200; Operating Temperature: -55°C ~ 155°C; Package / Case: 1206 (3216 Metric); Supplier Device Package: 1206; Size / Dimension: 0.126" L x 0.063" W (3.20mm x 1.60mm); Height - Seated (Max): 0.028" (0.70mm); Number of Terminations: 2; Failure Rate: -
footprint SMD-1206-RES
pins: 1, 2

## ERJ-8ENF12R0V
designator R?, comment 12
RES SMD 12 OHM 1% 1/4W 1206; Part Number: ERJ-8ENF12R0V; Manufacturer: Panasonic Electronic Components; Factory Stock: 0; Unit Price (USD): 0.00933; @ qty: 1500; Minimum Quantity: 1; Power (Watts): 0.25W, 1/4W; Temperature Coefficient: ±100ppm/°C; Datasheets: http://industrial.panasonic.com/www-cgi/jvcr13pz.cgi?E+PZ+3+AOA0002+ERJ8ENF12R0V+7+WW; Image: //media.digikey.com/Renders/Panasonic%20Renders/ERJ-1206%20Pkg.jpg; Digi-Key Part Number: P12.0FCT-ND; Quantity Available: 151960; Packaging: Cut Tape (CT); Series: ERJ; Part Status: Active; Value: 12; Tolerance: ±1%; Composition: Thick Film; Features: Automotive AEC-Q200; Operating Temperature: -55°C ~ 155°C; Package / Case: 1206 (3216 Metric); Supplier Device Package: 1206; Size / Dimension: 0.126" L x 0.063" W (3.20mm x 1.60mm); Height - Seated (Max): 0.028" (0.70mm); Number of Terminations: 2; Failure Rate: -
footprint SMD-1206-RES
pins: 1, 2

## ERJ-8ENF12R1V
designator R?, comment 12.1
RES SMD 12.1 OHM 1% 1/4W 1206; Part Number: ERJ-8ENF12R1V; Manufacturer: Panasonic Electronic Components; Factory Stock: 0; Unit Price (USD): 0.00933; @ qty: 1500; Minimum Quantity: 1; Power (Watts): 0.25W, 1/4W; Temperature Coefficient: ±100ppm/°C; Datasheets: http://industrial.panasonic.com/www-cgi/jvcr13pz.cgi?E+PZ+3+AOA0002+ERJ8ENF12R1V+7+WW; Image: //media.digikey.com/Renders/Panasonic%20Renders/ERJ-1206%20Pkg.jpg; Digi-Key Part Number: P12.1FCT-ND; Quantity Available: 14974; Packaging: Cut Tape (CT); Series: ERJ; Part Status: Active; Value: 12.1; Tolerance: ±1%; Composition: Thick Film; Features: Automotive AEC-Q200; Operating Temperature: -55°C ~ 155°C; Package / Case: 1206 (3216 Metric); Supplier Device Package: 1206; Size / Dimension: 0.126" L x 0.063" W (3.20mm x 1.60mm); Height - Seated (Max): 0.028" (0.70mm); Number of Terminations: 2; Failure Rate: -
footprint SMD-1206-RES
pins: 1, 2

## ERJ-8ENF12R4V
designator R?, comment 12.4
RES SMD 12.4 OHM 1% 1/4W 1206; Part Number: ERJ-8ENF12R4V; Manufacturer: Panasonic Electronic Components; Factory Stock: 0; Unit Price (USD): 0.00933; @ qty: 1500; Minimum Quantity: 1; Power (Watts): 0.25W, 1/4W; Temperature Coefficient: ±100ppm/°C; Datasheets: http://industrial.panasonic.com/www-cgi/jvcr13pz.cgi?E+PZ+3+AOA0002+ERJ8ENF12R4V+7+WW; Image: //media.digikey.com/Renders/Panasonic%20Renders/ERJ-1206%20Pkg.jpg; Digi-Key Part Number: P12.4FCT-ND; Quantity Available: 127639; Packaging: Cut Tape (CT); Series: ERJ; Part Status: Active; Value: 12.4; Tolerance: ±1%; Composition: Thick Film; Features: Automotive AEC-Q200; Operating Temperature: -55°C ~ 155°C; Package / Case: 1206 (3216 Metric); Supplier Device Package: 1206; Size / Dimension: 0.126" L x 0.063" W (3.20mm x 1.60mm); Height - Seated (Max): 0.028" (0.70mm); Number of Terminations: 2; Failure Rate: -
footprint SMD-1206-RES
pins: 1, 2

## ERJ-8ENF12R7V
designator R?, comment 12.7
RES SMD 12.7 OHM 1% 1/4W 1206; Part Number: ERJ-8ENF12R7V; Manufacturer: Panasonic Electronic Components; Factory Stock: 0; Unit Price (USD): 0.00933; @ qty: 1500; Minimum Quantity: 1; Power (Watts): 0.25W, 1/4W; Temperature Coefficient: ±100ppm/°C; Datasheets: http://industrial.panasonic.com/www-cgi/jvcr13pz.cgi?E+PZ+3+AOA0002+ERJ8ENF12R7V+7+WW; Image: //media.digikey.com/Renders/Panasonic%20Renders/ERJ-1206%20Pkg.jpg; Digi-Key Part Number: P12.7FCT-ND; Quantity Available: 127258; Packaging: Cut Tape (CT); Series: ERJ; Part Status: Active; Value: 12.7; Tolerance: ±1%; Composition: Thick Film; Features: Automotive AEC-Q200; Operating Temperature: -55°C ~ 155°C; Package / Case: 1206 (3216 Metric); Supplier Device Package: 1206; Size / Dimension: 0.126" L x 0.063" W (3.20mm x 1.60mm); Height - Seated (Max): 0.028" (0.70mm); Number of Terminations: 2; Failure Rate: -
footprint SMD-1206-RES
pins: 1, 2

## ERJ-8ENF13R0V
designator R?, comment 13
RES SMD 13 OHM 1% 1/4W 1206; Part Number: ERJ-8ENF13R0V; Manufacturer: Panasonic Electronic Components; Factory Stock: 0; Unit Price (USD): 0.00933; @ qty: 1500; Minimum Quantity: 1; Power (Watts): 0.25W, 1/4W; Temperature Coefficient: ±100ppm/°C; Datasheets: http://industrial.panasonic.com/www-cgi/jvcr13pz.cgi?E+PZ+3+AOA0002+ERJ8ENF13R0V+7+WW; Image: //media.digikey.com/Renders/Panasonic%20Renders/ERJ-1206%20Pkg.jpg; Digi-Key Part Number: P13.0FCT-ND; Quantity Available: 39941; Packaging: Cut Tape (CT); Series: ERJ; Part Status: Active; Value: 13; Tolerance: ±1%; Composition: Thick Film; Features: Automotive AEC-Q200; Operating Temperature: -55°C ~ 155°C; Package / Case: 1206 (3216 Metric); Supplier Device Package: 1206; Size / Dimension: 0.126" L x 0.063" W (3.20mm x 1.60mm); Height - Seated (Max): 0.028" (0.70mm); Number of Terminations: 2; Failure Rate: -
footprint SMD-1206-RES
pins: 1, 2

## ERJ-8ENF13R3V
designator R?, comment 13.3
RES SMD 13.3 OHM 1% 1/4W 1206; Part Number: ERJ-8ENF13R3V; Manufacturer: Panasonic Electronic Components; Factory Stock: 0; Unit Price (USD): 0.00933; @ qty: 1500; Minimum Quantity: 1; Power (Watts): 0.25W, 1/4W; Temperature Coefficient: ±100ppm/°C; Datasheets: http://industrial.panasonic.com/www-cgi/jvcr13pz.cgi?E+PZ+3+AOA0002+ERJ8ENF13R3V+7+WW; Image: //media.digikey.com/Renders/Panasonic%20Renders/ERJ-1206%20Pkg.jpg; Digi-Key Part Number: P13.3FCT-ND; Quantity Available: 69477; Packaging: Cut Tape (CT); Series: ERJ; Part Status: Active; Value: 13.3; Tolerance: ±1%; Composition: Thick Film; Features: Automotive AEC-Q200; Operating Temperature: -55°C ~ 155°C; Package / Case: 1206 (3216 Metric); Supplier Device Package: 1206; Size / Dimension: 0.126" L x 0.063" W (3.20mm x 1.60mm); Height - Seated (Max): 0.028" (0.70mm); Number of Terminations: 2; Failure Rate: -
footprint SMD-1206-RES
pins: 1, 2

## ERJ-8ENF13R7V
designator R?, comment 13.7
RES SMD 13.7 OHM 1% 1/4W 1206; Part Number: ERJ-8ENF13R7V; Manufacturer: Panasonic Electronic Components; Factory Stock: 0; Unit Price (USD): 0.00933; @ qty: 1500; Minimum Quantity: 1; Power (Watts): 0.25W, 1/4W; Temperature Coefficient: ±100ppm/°C; Datasheets: http://industrial.panasonic.com/www-cgi/jvcr13pz.cgi?E+PZ+3+AOA0002+ERJ8ENF13R7V+7+WW; Image: //media.digikey.com/Renders/Panasonic%20Renders/ERJ-1206%20Pkg.jpg; Digi-Key Part Number: P13.7FCT-ND; Quantity Available: 27440; Packaging: Cut Tape (CT); Series: ERJ; Part Status: Active; Value: 13.7; Tolerance: ±1%; Composition: Thick Film; Features: Automotive AEC-Q200; Operating Temperature: -55°C ~ 155°C; Package / Case: 1206 (3216 Metric); Supplier Device Package: 1206; Size / Dimension: 0.126" L x 0.063" W (3.20mm x 1.60mm); Height - Seated (Max): 0.028" (0.70mm); Number of Terminations: 2; Failure Rate: -
footprint SMD-1206-RES
pins: 1, 2

## ERJ-8ENF14R0V
designator R?, comment 14
RES SMD 14 OHM 1% 1/4W 1206; Part Number: ERJ-8ENF14R0V; Manufacturer: Panasonic Electronic Components; Factory Stock: 0; Unit Price (USD): 0.00933; @ qty: 1500; Minimum Quantity: 1; Power (Watts): 0.25W, 1/4W; Temperature Coefficient: ±100ppm/°C; Datasheets: http://industrial.panasonic.com/www-cgi/jvcr13pz.cgi?E+PZ+3+AOA0002+ERJ8ENF14R0V+7+WW; Image: //media.digikey.com/Renders/Panasonic%20Renders/ERJ-1206%20Pkg.jpg; Digi-Key Part Number: P14.0FCT-ND; Quantity Available: 30746; Packaging: Cut Tape (CT); Series: ERJ; Part Status: Active; Value: 14; Tolerance: ±1%; Composition: Thick Film; Features: Automotive AEC-Q200; Operating Temperature: -55°C ~ 155°C; Package / Case: 1206 (3216 Metric); Supplier Device Package: 1206; Size / Dimension: 0.126" L x 0.063" W (3.20mm x 1.60mm); Height - Seated (Max): 0.028" (0.70mm); Number of Terminations: 2; Failure Rate: -
footprint SMD-1206-RES
pins: 1, 2

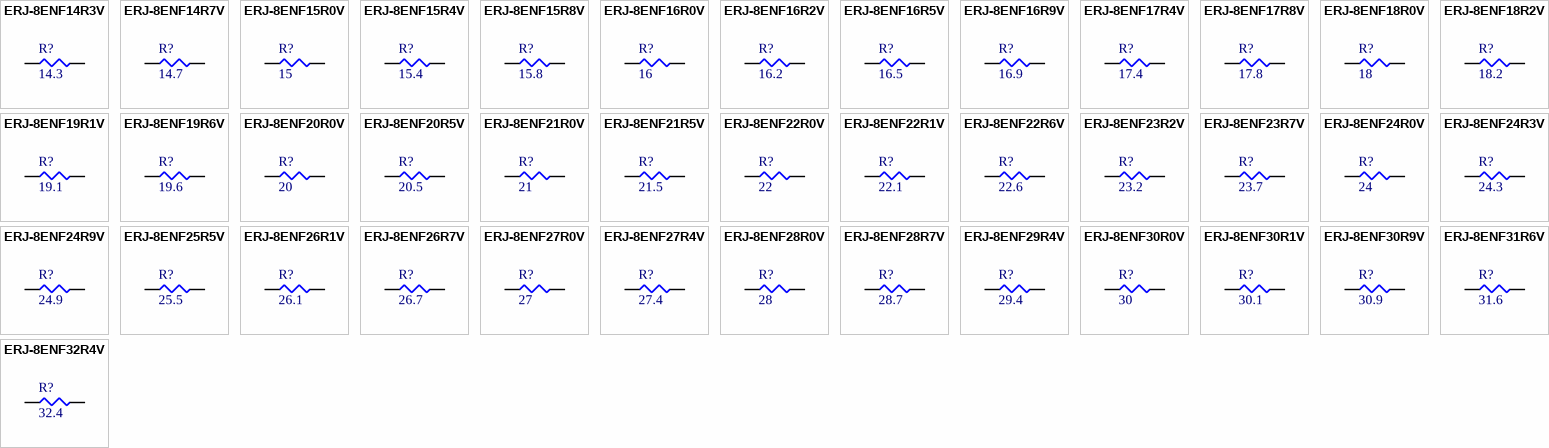
[diagram p5: symbols ERJ-8ENF14R3V to ERJ-8ENF32R4V]

## ERJ-8ENF14R3V
designator R?, comment 14.3
RES SMD 14.3 OHM 1% 1/4W 1206; Part Number: ERJ-8ENF14R3V; Manufacturer: Panasonic Electronic Components; Factory Stock: 0; Unit Price (USD): 0.00933; @ qty: 1500; Minimum Quantity: 1; Power (Watts): 0.25W, 1/4W; Temperature Coefficient: ±100ppm/°C; Datasheets: http://industrial.panasonic.com/www-cgi/jvcr13pz.cgi?E+PZ+3+AOA0002+ERJ8ENF14R3V+7+WW; Image: //media.digikey.com/Renders/Panasonic%20Renders/ERJ-1206%20Pkg.jpg; Digi-Key Part Number: P14.3FCT-ND; Quantity Available: 74605; Packaging: Cut Tape (CT); Series: ERJ; Part Status: Active; Value: 14.3; Tolerance: ±1%; Composition: Thick Film; Features: Automotive AEC-Q200; Operating Temperature: -55°C ~ 155°C; Package / Case: 1206 (3216 Metric); Supplier Device Package: 1206; Size / Dimension: 0.126" L x 0.063" W (3.20mm x 1.60mm); Height - Seated (Max): 0.028" (0.70mm); Number of Terminations: 2; Failure Rate: -
footprint SMD-1206-RES
pins: 1, 2

## ERJ-8ENF14R7V
designator R?, comment 14.7
RES SMD 14.7 OHM 1% 1/4W 1206; Part Number: ERJ-8ENF14R7V; Manufacturer: Panasonic Electronic Components; Factory Stock: 0; Unit Price (USD): 0.00933; @ qty: 1500; Minimum Quantity: 1; Power (Watts): 0.25W, 1/4W; Temperature Coefficient: ±100ppm/°C; Datasheets: http://industrial.panasonic.com/www-cgi/jvcr13pz.cgi?E+PZ+3+AOA0002+ERJ8ENF14R7V+7+WW; Image: //media.digikey.com/Renders/Panasonic%20Renders/ERJ-1206%20Pkg.jpg; Digi-Key Part Number: P14.7FCT-ND; Quantity Available: 33478; Packaging: Cut Tape (CT); Series: ERJ; Part Status: Active; Value: 14.7; Tolerance: ±1%; Composition: Thick Film; Features: Automotive AEC-Q200; Operating Temperature: -55°C ~ 155°C; Package / Case: 1206 (3216 Metric); Supplier Device Package: 1206; Size / Dimension: 0.126" L x 0.063" W (3.20mm x 1.60mm); Height - Seated (Max): 0.028" (0.70mm); Number of Terminations: 2; Failure Rate: -
footprint SMD-1206-RES
pins: 1, 2

## ERJ-8ENF15R0V
designator R?, comment 15
RES SMD 15 OHM 1% 1/4W 1206; Part Number: ERJ-8ENF15R0V; Manufacturer: Panasonic Electronic Components; Factory Stock: 0; Unit Price (USD): 0.00933; @ qty: 1500; Minimum Quantity: 1; Power (Watts): 0.25W, 1/4W; Temperature Coefficient: ±100ppm/°C; Datasheets: http://industrial.panasonic.com/www-cgi/jvcr13pz.cgi?E+PZ+3+AOA0002+ERJ8ENF15R0V+7+WW; Image: //media.digikey.com/Renders/Panasonic%20Renders/ERJ-1206%20Pkg.jpg; Digi-Key Part Number: P15.0FCT-ND; Quantity Available: 185264; Packaging: Cut Tape (CT); Series: ERJ; Part Status: Active; Value: 15; Tolerance: ±1%; Composition: Thick Film; Features: Automotive AEC-Q200; Operating Temperature: -55°C ~ 155°C; Package / Case: 1206 (3216 Metric); Supplier Device Package: 1206; Size / Dimension: 0.126" L x 0.063" W (3.20mm x 1.60mm); Height - Seated (Max): 0.028" (0.70mm); Number of Terminations: 2; Failure Rate: -
footprint SMD-1206-RES
pins: 1, 2

## ERJ-8ENF15R4V
designator R?, comment 15.4
RES SMD 15.4 OHM 1% 1/4W 1206; Part Number: ERJ-8ENF15R4V; Manufacturer: Panasonic Electronic Components; Factory Stock: 0; Unit Price (USD): 0.00933; @ qty: 1500; Minimum Quantity: 1; Power (Watts): 0.25W, 1/4W; Temperature Coefficient: ±100ppm/°C; Datasheets: http://industrial.panasonic.com/www-cgi/jvcr13pz.cgi?E+PZ+3+AOA0002+ERJ8ENF15R4V+7+WW; Image: //media.digikey.com/Renders/Panasonic%20Renders/ERJ-1206%20Pkg.jpg; Digi-Key Part Number: P15.4FCT-ND; Quantity Available: 5762; Packaging: Cut Tape (CT); Series: ERJ; Part Status: Active; Value: 15.4; Tolerance: ±1%; Composition: Thick Film; Features: Automotive AEC-Q200; Operating Temperature: -55°C ~ 155°C; Package / Case: 1206 (3216 Metric); Supplier Device Package: 1206; Size / Dimension: 0.126" L x 0.063" W (3.20mm x 1.60mm); Height - Seated (Max): 0.028" (0.70mm); Number of Terminations: 2; Failure Rate: -
footprint SMD-1206-RES
pins: 1, 2

## ERJ-8ENF15R8V
designator R?, comment 15.8
RES SMD 15.8 OHM 1% 1/4W 1206; Part Number: ERJ-8ENF15R8V; Manufacturer: Panasonic Electronic Components; Factory Stock: 0; Unit Price (USD): 0.00933; @ qty: 1500; Minimum Quantity: 1; Power (Watts): 0.25W, 1/4W; Temperature Coefficient: ±100ppm/°C; Datasheets: http://industrial.panasonic.com/www-cgi/jvcr13pz.cgi?E+PZ+3+AOA0002+ERJ8ENF15R8V+7+WW; Image: //media.digikey.com/Renders/Panasonic%20Renders/ERJ-1206%20Pkg.jpg; Digi-Key Part Number: P15.8FCT-ND; Quantity Available: 88160; Packaging: Cut Tape (CT); Series: ERJ; Part Status: Active; Value: 15.8; Tolerance: ±1%; Composition: Thick Film; Features: Automotive AEC-Q200; Operating Temperature: -55°C ~ 155°C; Package / Case: 1206 (3216 Metric); Supplier Device Package: 1206; Size / Dimension: 0.126" L x 0.063" W (3.20mm x 1.60mm); Height - Seated (Max): 0.028" (0.70mm); Number of Terminations: 2; Failure Rate: -
footprint SMD-1206-RES
pins: 1, 2

## ERJ-8ENF16R0V
designator R?, comment 16
RES SMD 16 OHM 1% 1/4W 1206; Part Number: ERJ-8ENF16R0V; Manufacturer: Panasonic Electronic Components; Factory Stock: 0; Unit Price (USD): 0.00933; @ qty: 1500; Minimum Quantity: 1; Power (Watts): 0.25W, 1/4W; Temperature Coefficient: ±100ppm/°C; Datasheets: http://industrial.panasonic.com/www-cgi/jvcr13pz.cgi?E+PZ+3+AOA0002+ERJ8ENF16R0V+7+WW; Image: //media.digikey.com/Renders/Panasonic%20Renders/ERJ-1206%20Pkg.jpg; Digi-Key Part Number: P16.0FCT-ND; Quantity Available: 45708; Packaging: Cut Tape (CT); Series: ERJ; Part Status: Active; Value: 16; Tolerance: ±1%; Composition: Thick Film; Features: Automotive AEC-Q200; Operating Temperature: -55°C ~ 155°C; Package / Case: 1206 (3216 Metric); Supplier Device Package: 1206; Size / Dimension: 0.126" L x 0.063" W (3.20mm x 1.60mm); Height - Seated (Max): 0.028" (0.70mm); Number of Terminations: 2; Failure Rate: -
footprint SMD-1206-RES
pins: 1, 2

## ERJ-8ENF16R2V
designator R?, comment 16.2
RES SMD 16.2 OHM 1% 1/4W 1206; Part Number: ERJ-8ENF16R2V; Manufacturer: Panasonic Electronic Components; Factory Stock: 0; Unit Price (USD): 0.00933; @ qty: 1500; Minimum Quantity: 1; Power (Watts): 0.25W, 1/4W; Temperature Coefficient: ±100ppm/°C; Datasheets: http://industrial.panasonic.com/www-cgi/jvcr13pz.cgi?E+PZ+3+AOA0002+ERJ8ENF16R2V+7+WW; Image: //media.digikey.com/Renders/Panasonic%20Renders/ERJ-1206%20Pkg.jpg; Digi-Key Part Number: P16.2FCT-ND; Quantity Available: 36443; Packaging: Cut Tape (CT); Series: ERJ; Part Status: Active; Value: 16.2; Tolerance: ±1%; Composition: Thick Film; Features: Automotive AEC-Q200; Operating Temperature: -55°C ~ 155°C; Package / Case: 1206 (3216 Metric); Supplier Device Package: 1206; Size / Dimension: 0.126" L x 0.063" W (3.20mm x 1.60mm); Height - Seated (Max): 0.028" (0.70mm); Number of Terminations: 2; Failure Rate: -
footprint SMD-1206-RES
pins: 1, 2

## ERJ-8ENF16R5V
designator R?, comment 16.5
RES SMD 16.5 OHM 1% 1/4W 1206; Part Number: ERJ-8ENF16R5V; Manufacturer: Panasonic Electronic Components; Factory Stock: 0; Unit Price (USD): 0.00933; @ qty: 1500; Minimum Quantity: 1; Power (Watts): 0.25W, 1/4W; Temperature Coefficient: ±100ppm/°C; Datasheets: http://industrial.panasonic.com/www-cgi/jvcr13pz.cgi?E+PZ+3+AOA0002+ERJ8ENF16R5V+7+WW; Image: //media.digikey.com/Renders/Panasonic%20Renders/ERJ-1206%20Pkg.jpg; Digi-Key Part Number: P16.5FCT-ND; Quantity Available: 46768; Packaging: Cut Tape (CT); Series: ERJ; Part Status: Active; Value: 16.5; Tolerance: ±1%; Composition: Thick Film; Features: Automotive AEC-Q200; Operating Temperature: -55°C ~ 155°C; Package / Case: 1206 (3216 Metric); Supplier Device Package: 1206; Size / Dimension: 0.126" L x 0.063" W (3.20mm x 1.60mm); Height - Seated (Max): 0.028" (0.70mm); Number of Terminations: 2; Failure Rate: -
footprint SMD-1206-RES
pins: 1, 2